# Altium footprint library CONN_38720-6305_MOL.PcbLib: 1 footprints
Each footprint in its own frame and in the unit in brackets; x right, y up, seen from the top. Pads: shape width x height; smd on the part's side, far side on the other; paste and mask are expansions set on the pad; w line width, h text height; cw(c..) or ccw(c..) is an arc to the next point about the centre after c.
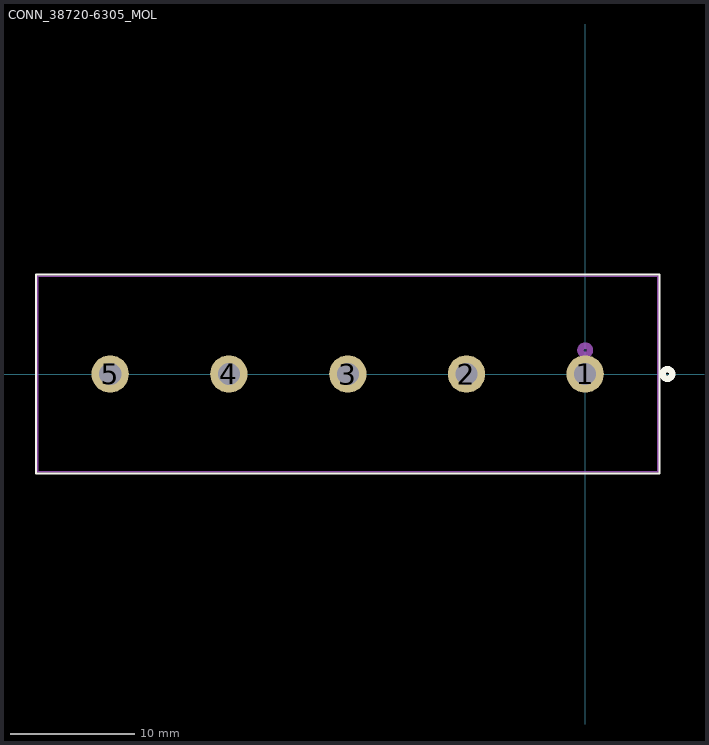
[diagram p0: the footprint, top view; thin cyan lines are the x and y axes]

## CONN_38720-6305_MOL [mm]
pads (5):
  round 3 hole 1.778: 1(0,0) 2(-9.525,0) 3(-19.05,0) 4(-28.6,0) 5(-38.125,0)
Top Overlay:
  lines w0.152: -44.094,-7.976 -44.094,7.976 5.969,7.976 5.969,-7.976 -44.094,-7.976
  lines w0.508: 6.223,0 cw(c6.604,0) 6.985,0 cw(c6.604,0) 6.223,0
Bottom Overlay:
  lines w0.508: 6.223,0 cw(c6.604,0) 6.985,0 cw(c6.604,0) 6.223,0
Assembly Top:
  lines w0.152: -43.967,-7.849 -43.967,7.849 5.842,7.849 5.842,-7.849 -43.967,-7.849
  lines w0.508: -0.381,1.905 cw(c0,1.905) 0.381,1.905 cw(c0,1.905) -0.381,1.905
3D body "0387206305.stp": height 16.76, standoff -4.82, extent -43.942,-7.874 5.842,7.874